# Altium footprint library SOIC-16(7.5X10.3).PcbLib: 1 footprints
Each footprint in its own frame and in the unit in brackets; x right, y up, seen from the top. Pads: shape width x height; smd on the part's side, far side on the other; paste and mask are expansions set on the pad; w line width, h text height; cw(c..) or ccw(c..) is an arc to the next point about the centre after c.
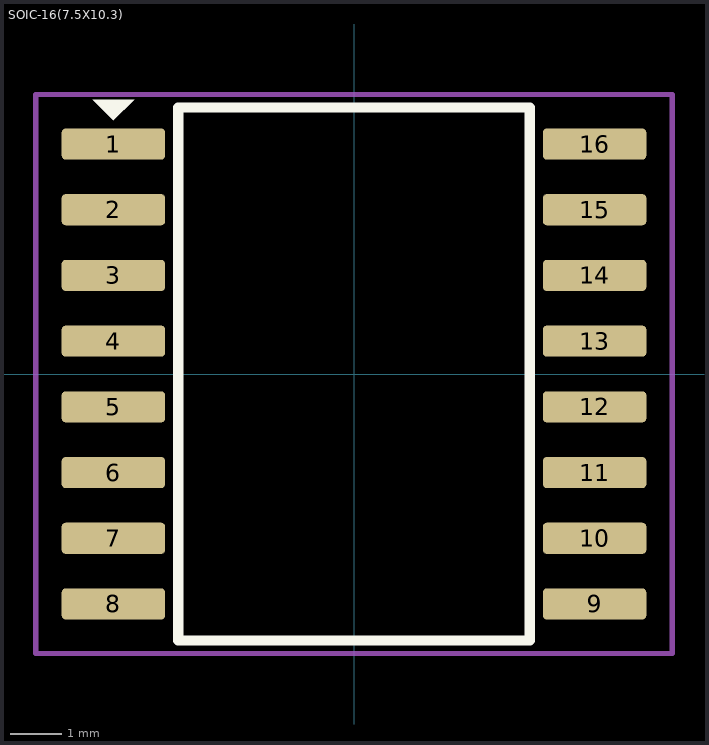
[diagram p0: the footprint, top view; thin cyan lines are the x and y axes]

## SOIC-16(7.5X10.3) [mm]
pads (16):
  rrect25% 2x0.6 smd: 1(-4.65,4.445) 2(-4.65,3.175) 3(-4.65,1.905) 4(-4.65,0.635) 5(-4.65,-0.635) 6(-4.65,-1.905) 7(-4.65,-3.175) 8(-4.65,-4.445) 9(4.65,-4.445) 10(4.65,-3.175) 11(4.65,-1.905) 12(4.65,-0.635) 13(4.65,0.635) 14(4.65,1.905) 15(4.65,3.175) 16(4.65,4.445)
Top Overlay:
  region: -5.05,5.3 -4.25,5.3 -4.65,4.9
  lines w0.2: -3.4,-5.15 -3.4,5.15 3.4,5.15 3.4,-5.15 -3.4,-5.15
Top Courtyard:
  lines w0.1: -6.15,-5.4 -6.15,5.4 6.15,5.4 6.15,-5.4 -6.15,-5.4
3D body "DS3231SN.STEP": height 2.65, standoff 0, extent -5.162,-5.15 5.163,5.15